# Altium schematic symbol library HX1188.SchLib: 1 symbol
Pins are listed as number, name and electrical type; pins without a type are passive.

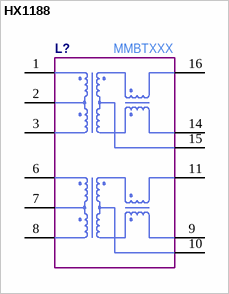
[diagram p0: symbol HX1188]

## HX1188
designator L?  Manufacturer Part Number: MMBTXXX  (hidden comment: *)
pins: 1 10, 2 11, 3 11, 6 10, 7 11, 8 11, 9 10, 10, 11 10, 14 10, 15 10, 16 10